# EAGLE library part PIC18F45J10 (library 4534)
40 PIN DIP PIC W/2 MSSP
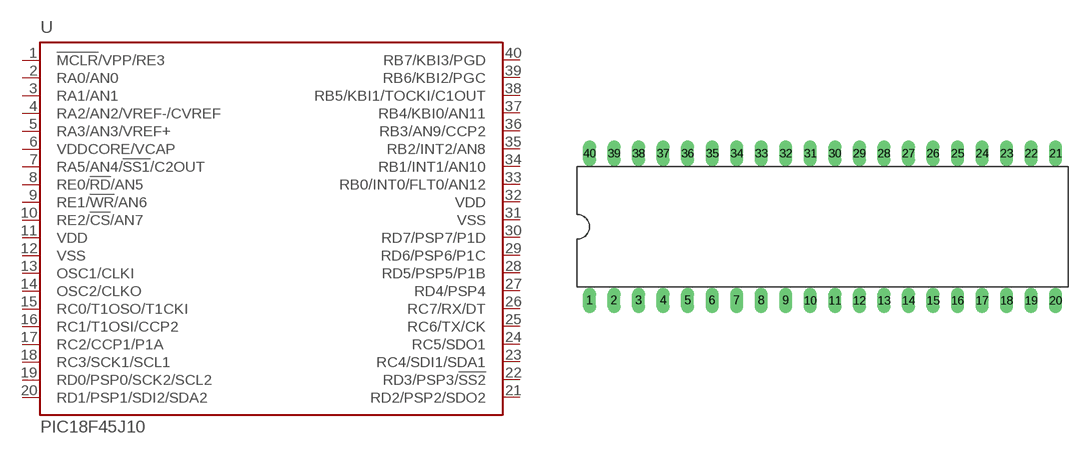
[diagram p13: symbol with the pads of DIL40; footprint DIL40]

Designator prefix -

## PIC18F45J10-I/P  [DIL40]
1  !MCLR!/VPP/RE3  in
2  RA0/AN0
3  RA1/AN1
4  RA2/AN2/VREF-/CVREF
5  RA3/AN3/VREF+
6  VDDCORE/VCAP
7  RA5/AN4/!SS1!/C2OUT
8  RE0/!RD!/AN5
9  RE1/!WR!/AN6
10  RE2/!CS!/AN7
11  VDD  pwr
12  VSS  pwr
13  OSC1/CLKI  in
14  OSC2/CLKO  out
15  RC0/T1OSO/T1CKI
16  RC1/T1OSI/CCP2
17  RC2/CCP1/P1A
18  RC3/SCK1/SCL1
19  RD0/PSP0/SCK2/SCL2
20  RD1/PSP1/SDI2/SDA2
21  RD2/PSP2/SDO2
22  RD3/PSP3/!SS2!
23  RC4/SDI1/SDA1
24  RC5/SDO1
25  RC6/TX/CK
26  RC7/RX/DT
27  RD4/PSP4
28  RD5/PSP5/P1B
29  RD6/PSP6/P1C
30  RD7/PSP7/P1D
31  VSS  pwr
32  VDD  pwr
33  RB0/INT0/FLT0/AN12
34  RB1/INT1/AN10
35  RB2/INT2/AN8
36  RB3/AN9/CCP2
37  RB4/KBI0/AN11
38  RB5/KBI1/TOCKI/C1OUT
39  RB6/KBI2/PGC
40  RB7/KBI3/PGD

## Footprint DIL40 (pad centres in mm)
Dual In Line package type P
drill 0.813 long: 1 -24.13,-7.62; 2 -21.59,-7.62; 3 -19.05,-7.62; 4 -16.51,-7.62; 5 -13.97,-7.62; 6 -11.43,-7.62; 7 -8.89,-7.62; 8 -6.35,-7.62; 9 -3.81,-7.62; 10 -1.27,-7.62; 11 1.27,-7.62; 12 3.81,-7.62; 13 6.35,-7.62; 14 8.89,-7.62; 15 11.43,-7.62; 16 13.97,-7.62; 17 16.51,-7.62; 18 19.05,-7.62; 19 21.59,-7.62; 20 24.13,-7.62; 21 24.13,7.62; 22 21.59,7.62; 23 19.05,7.62; 24 16.51,7.62; 25 13.97,7.62; 26 11.43,7.62; 27 8.89,7.62; 28 6.35,7.62; 29 3.81,7.62; 30 1.27,7.62; 31 -1.27,7.62; 32 -3.81,7.62; 33 -6.35,7.62; 34 -8.89,7.62; 35 -11.43,7.62; 36 -13.97,7.62; 37 -16.51,7.62; 38 -19.05,7.62; 39 -21.59,7.62; 40 -24.13,7.62